# EAGLE library part TMS320C5535 (library rezzonics)
TMS320C5535, 'C5534, 'C5533, 'C5532 Fixed-Point Digital Signal Processors http://www.ti.com/product/tms320c5535
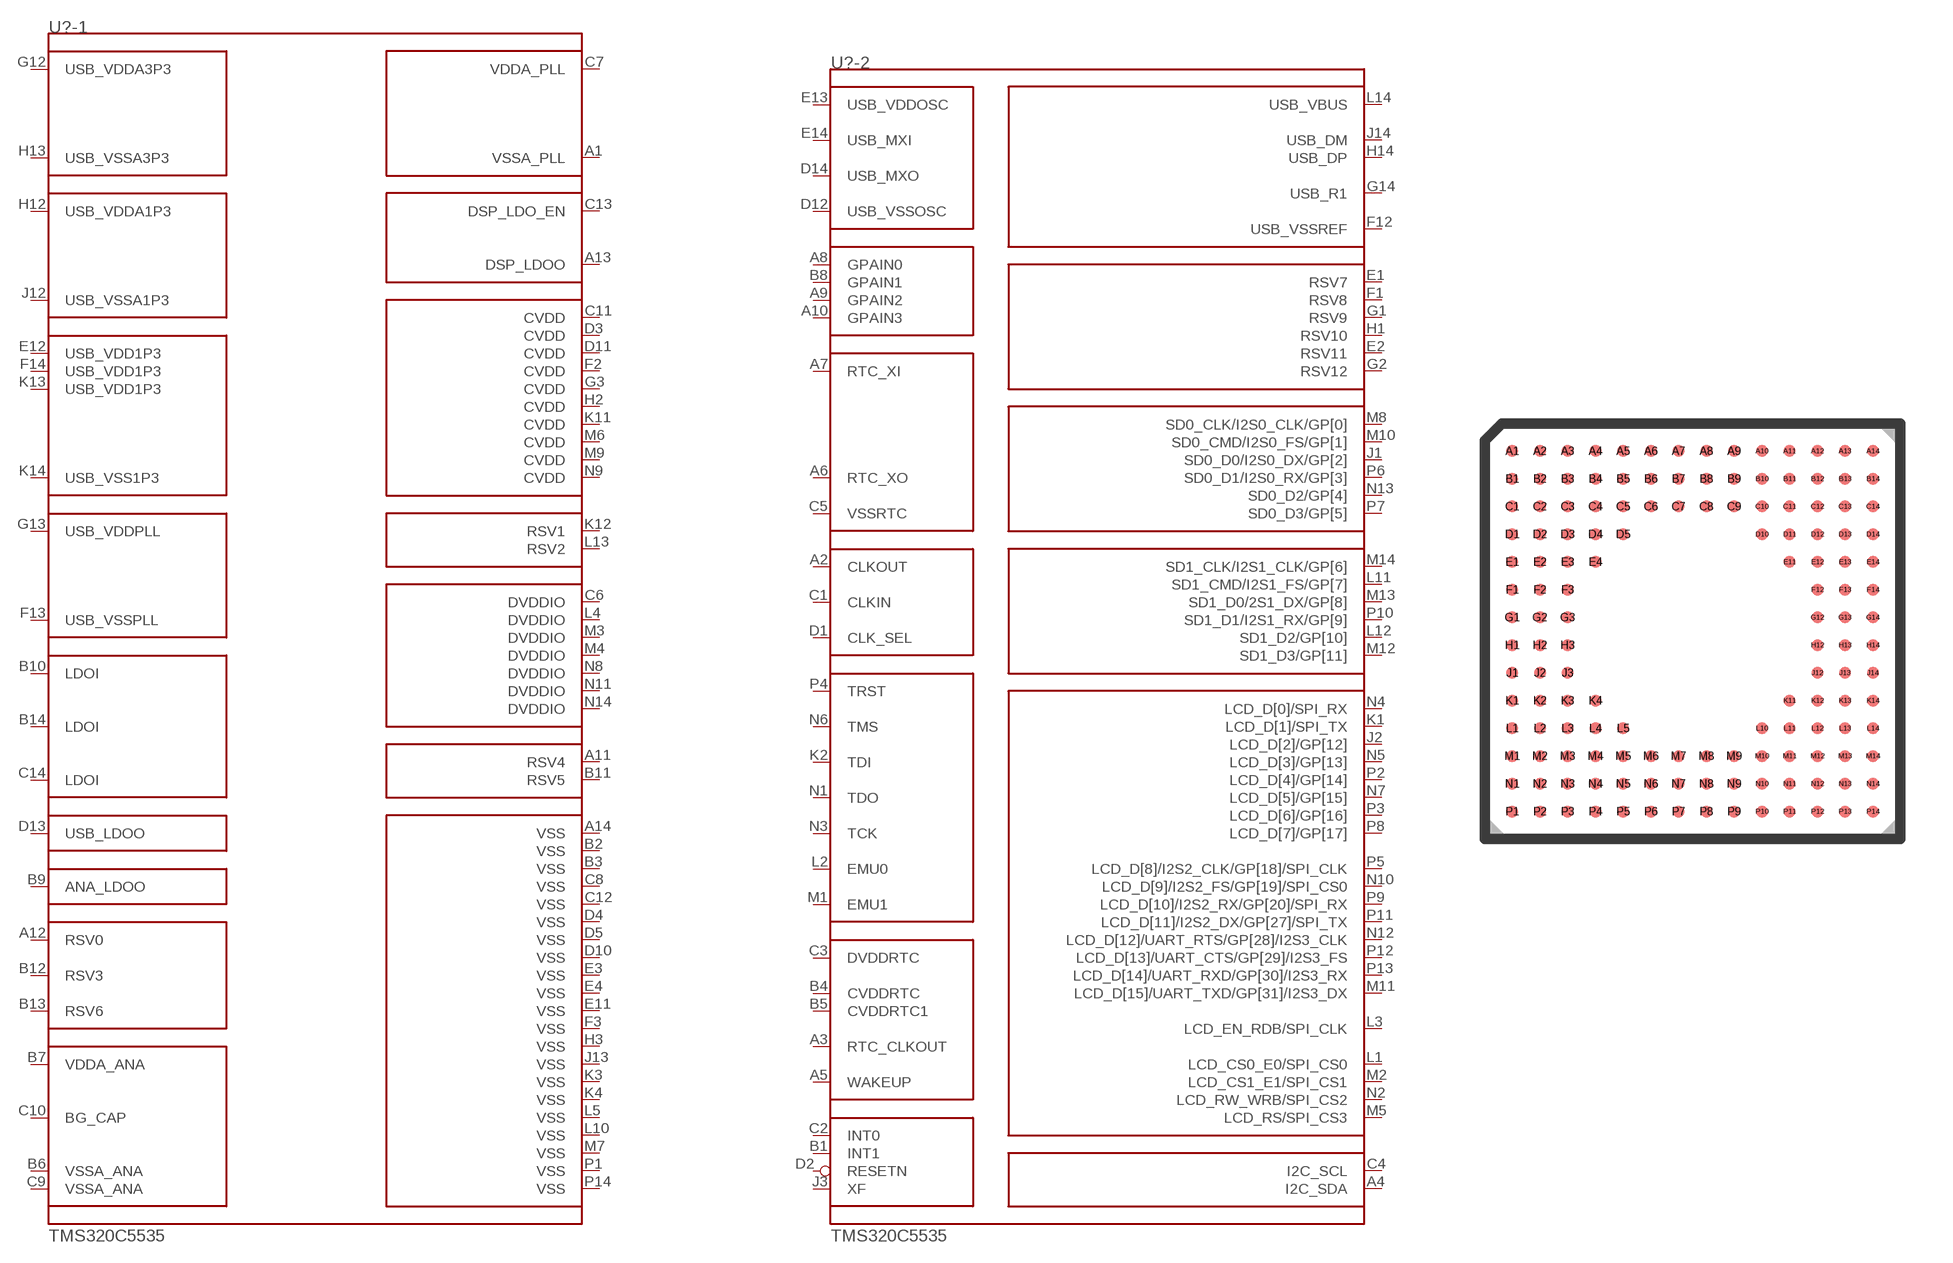
[diagram p8: symbol with the pads of PBGA144; footprint PBGA144]

Designator prefix U?; gates -1=TMS320C5535_A -2=TMS320C5535_B

## TMS320C5535S-PBGA-N144  [PBGA144]
A1  -1:VSSA_PLL  pwr
A2  -2:CLKOUT  out
A3  -2:RTC_CLKOUT  out
A4  -2:I2C_SDA
A5  -2:WAKEUP
A6  -2:RTC_XO
A7  -2:RTC_XI  in
A8  -2:GPAIN0
A9  -2:GPAIN2
A10  -2:GPAIN3
A11  -1:RSV4  in
A12  -1:RSV0  in
A13  -1:DSP_LDOO  pwr
A14  -1:VSS  pwr
B1  -2:INT1  in
B2  -1:VSS  pwr
B3  -1:VSS  pwr
B4  -2:CVDDRTC  pwr
B5  -2:CVDDRTC1  pwr
B6  -1:VSSA_ANA  pwr
B7  -1:VDDA_ANA  pwr
B8  -2:GPAIN1
B9  -1:ANA_LDOO  pwr
B10  -1:LDOI  pwr
B11  -1:RSV5  in
B12  -1:RSV3  in
B13  -1:RSV6  in
B14  -1:LDOI  pwr
C1  -2:CLKIN  in
C2  -2:INT0  in
C3  -2:DVDDRTC  pwr
C4  -2:I2C_SCL
C5  -2:VSSRTC  pwr
C6  -1:DVDDIO  pwr
C7  -1:VDDA_PLL  pwr
C8  -1:VSS  pwr
C9  -1:VSSA_ANA  pwr
C10  -1:BG_CAP
C11  -1:CVDD  pwr
C12  -1:VSS  pwr
C13  -1:DSP_LDO_EN  in
C14  -1:LDOI  pwr
D1  -2:CLK_SEL  in
D2  -2:RESETN  in
D3  -1:CVDD  pwr
D4  -1:VSS  pwr
D5  -1:VSS  pwr
D10  -1:VSS  pwr
D11  -1:CVDD  pwr
D12  -2:USB_VSSOSC  pwr
D13  -1:USB_LDOO  pwr
D14  -2:USB_MXO  out
E1  -2:RSV7  in
E2  -2:RSV11  in
E3  -1:VSS  pwr
E4  -1:VSS  pwr
E11  -1:VSS  pwr
E12  -1:USB_VDD1P3  pwr
E13  -2:USB_VDDOSC  pwr
E14  -2:USB_MXI  in
F1  -2:RSV8  in
F2  -1:CVDD  pwr
F3  -1:VSS  pwr
F12  -2:USB_VSSREF  pwr
F13  -1:USB_VSSPLL  pwr
F14  -1:USB_VDD1P3  pwr
G1  -2:RSV9  in
G2  -2:RSV12  in
G3  -1:CVDD  pwr
G12  -1:USB_VDDA3P3  pwr
G13  -1:USB_VDDPLL  pwr
G14  -2:USB_R1
H1  -2:RSV10  in
H2  -1:CVDD  pwr
H3  -1:VSS  pwr
H12  -1:USB_VDDA1P3  pwr
H13  -1:USB_VSSA3P3  pwr
H14  -2:USB_DP
J1  -2:SD0_D0/I2S0_DX/GP[2]
J2  -2:LCD_D[2]/GP[12]  hiz
J3  -2:XF  out
J12  -1:USB_VSSA1P3  pwr
J13  -1:VSS  pwr
J14  -2:USB_DM
K1  -2:LCD_D[1]/SPI_TX  hiz
K2  -2:TDI  in
K3  -1:VSS  pwr
K4  -1:VSS  pwr
K11  -1:CVDD  pwr
K12  -1:RSV1  pwr
K13  -1:USB_VDD1P3  pwr
K14  -1:USB_VSS1P3  pwr
L1  -2:LCD_CS0_E0/SPI_CS0
L2  -2:EMU0
L3  -2:LCD_EN_RDB/SPI_CLK  out
L4  -1:DVDDIO  pwr
L5  -1:VSS  pwr
L10  -1:VSS  pwr
L11  -2:SD1_CMD/I2S1_FS/GP[7]
L12  -2:SD1_D2/GP[10]
L13  -1:RSV2  pwr
L14  -2:USB_VBUS
M1  -2:EMU1
M2  -2:LCD_CS1_E1/SPI_CS1
M3  -1:DVDDIO  pwr
M4  -1:DVDDIO  pwr
M5  -2:LCD_RS/SPI_CS3
M6  -1:CVDD  pwr
M7  -1:VSS  pwr
M8  -2:SD0_CLK/I2S0_CLK/GP[0]
M9  -1:CVDD  pwr
M10  -2:SD0_CMD/I2S0_FS/GP[1]
M11  -2:LCD_D[15]/UART_TXD/GP[31]/I2S3_DX
M12  -2:SD1_D3/GP[11]
M13  -2:SD1_D0/2S1_DX/GP[8]
M14  -2:SD1_CLK/I2S1_CLK/GP[6]
N1  -2:TDO  out
N2  -2:LCD_RW_WRB/SPI_CS2
N3  -2:TCK  in
N4  -2:LCD_D[0]/SPI_RX  hiz
N5  -2:LCD_D[3]/GP[13]  hiz
N6  -2:TMS  in
N7  -2:LCD_D[5]/GP[15]  hiz
N8  -1:DVDDIO  pwr
N9  -1:CVDD  pwr
N10  -2:LCD_D[9]/I2S2_FS/GP[19]/SPI_CS0
N11  -1:DVDDIO  pwr
N12  -2:LCD_D[12]/UART_RTS/GP[28]/I2S3_CLK
N13  -2:SD0_D2/GP[4]
N14  -1:DVDDIO  pwr
P1  -1:VSS  pwr
P2  -2:LCD_D[4]/GP[14]  hiz
P3  -2:LCD_D[6]/GP[16]  hiz
P4  -2:TRST  in
P5  -2:LCD_D[8]/I2S2_CLK/GP[18]/SPI_CLK
P6  -2:SD0_D1/I2S0_RX/GP[3]
P7  -2:SD0_D3/GP[5]
P8  -2:LCD_D[7]/GP[17]  hiz
P9  -2:LCD_D[10]/I2S2_RX/GP[20]/SPI_RX
P10  -2:SD1_D1/I2S1_RX/GP[9]
P11  -2:LCD_D[11]/I2S2_DX/GP[27]/SPI_TX
P12  -2:LCD_D[13]/UART_CTS/GP[29]/I2S3_FS
P13  -2:LCD_D[14]/UART_RXD/GP[30]/I2S3_RX
P14  -1:VSS  pwr

## Footprint PBGA144 (pad centres in mm)
PLASTIC BALL GRID ARRAY PACKAGE GGU (S-PBGA-N144) Source: tms320vc5402.pdf
smd 0.35 x 0.35: A1 -5.2,5.2; A2 -4.4,5.2; A3 -3.6,5.2; A4 -2.8,5.2; A5 -2,5.2; A6 -1.2,5.2; A7 -0.4,5.2; A8 0.4,5.2; A9 1.2,5.2; A10 2,5.2; A11 2.8,5.2; A12 3.6,5.2; A13 4.4,5.2; A14 5.2,5.2; B1 -5.2,4.4; B2 -4.4,4.4; B3 -3.6,4.4; B4 -2.8,4.4; B5 -2,4.4; B6 -1.2,4.4; B7 -0.4,4.4; B8 0.4,4.4; B9 1.2,4.4; B10 2,4.4; B11 2.8,4.4; B12 3.6,4.4; B13 4.4,4.4; B14 5.2,4.4; C1 -5.2,3.6; C2 -4.4,3.6; C3 -3.6,3.6; C4 -2.8,3.6; C5 -2,3.6; C6 -1.2,3.6; C7 -0.4,3.6; C8 0.4,3.6; C9 1.2,3.6; C10 2,3.6; C11 2.8,3.6; C12 3.6,3.6; C13 4.4,3.6; C14 5.2,3.6; D1 -5.2,2.8; D2 -4.4,2.8; D3 -3.6,2.8; D4 -2.8,2.8; D5 -2,2.8; D10 2,2.8; D11 2.8,2.8; D12 3.6,2.8; D13 4.4,2.8; D14 5.2,2.8; E1 -5.2,2; E2 -4.4,2; E3 -3.6,2; E4 -2.8,2; E11 2.8,2; E12 3.6,2; E13 4.4,2; E14 5.2,2; F1 -5.2,1.2; F2 -4.4,1.2; F3 -3.6,1.2; F12 3.6,1.2; F13 4.4,1.2; F14 5.2,1.2; G1 -5.2,0.4; G2 -4.4,0.4; G3 -3.6,0.4; G12 3.6,0.4; G13 4.4,0.4; G14 5.2,0.4; H1 -5.2,-0.4; H2 -4.4,-0.4; H3 -3.6,-0.4; H12 3.6,-0.4; H13 4.4,-0.4; H14 5.2,-0.4; J1 -5.2,-1.2; J2 -4.4,-1.2; J3 -3.6,-1.2; J12 3.6,-1.2; J13 4.4,-1.2; J14 5.2,-1.2; K1 -5.2,-2; K2 -4.4,-2; K3 -3.6,-2; K4 -2.8,-2; K11 2.8,-2; K12 3.6,-2; K13 4.4,-2; K14 5.2,-2; L1 -5.2,-2.8; L2 -4.4,-2.8; L3 -3.6,-2.8; L4 -2.8,-2.8; L5 -2,-2.8; L10 2,-2.8; L11 2.8,-2.8; L12 3.6,-2.8; L13 4.4,-2.8; L14 5.2,-2.8; M1 -5.2,-3.6; M2 -4.4,-3.6; M3 -3.6,-3.6; M4 -2.8,-3.6; M5 -2,-3.6; M6 -1.2,-3.6; M7 -0.4,-3.6; M8 0.4,-3.6; M9 1.2,-3.6; M10 2,-3.6; M11 2.8,-3.6; M12 3.6,-3.6; M13 4.4,-3.6; M14 5.2,-3.6; N1 -5.2,-4.4; N2 -4.4,-4.4; N3 -3.6,-4.4; N4 -2.8,-4.4; N5 -2,-4.4; N6 -1.2,-4.4; N7 -0.4,-4.4; N8 0.4,-4.4; N9 1.2,-4.4; N10 2,-4.4; N11 2.8,-4.4; N12 3.6,-4.4; N13 4.4,-4.4; N14 5.2,-4.4; P1 -5.2,-5.2; P2 -4.4,-5.2; P3 -3.6,-5.2; P4 -2.8,-5.2; P5 -2,-5.2; P6 -1.2,-5.2; P7 -0.4,-5.2; P8 0.4,-5.2; P9 1.2,-5.2; P10 2,-5.2; P11 2.8,-5.2; P12 3.6,-5.2; P13 4.4,-5.2; P14 5.2,-5.2